# Altium footprint library Conectors.PcbLib: 137 footprints (part 8 of 9)
Each footprint in its own frame and in the unit in brackets; x right, y up, seen from the top. Pads: shape width x height; smd on the part's side, far side on the other; paste and mask are expansions set on the pad; w line width, h text height; cw(c..) or ccw(c..) is an arc to the next point about the centre after c.
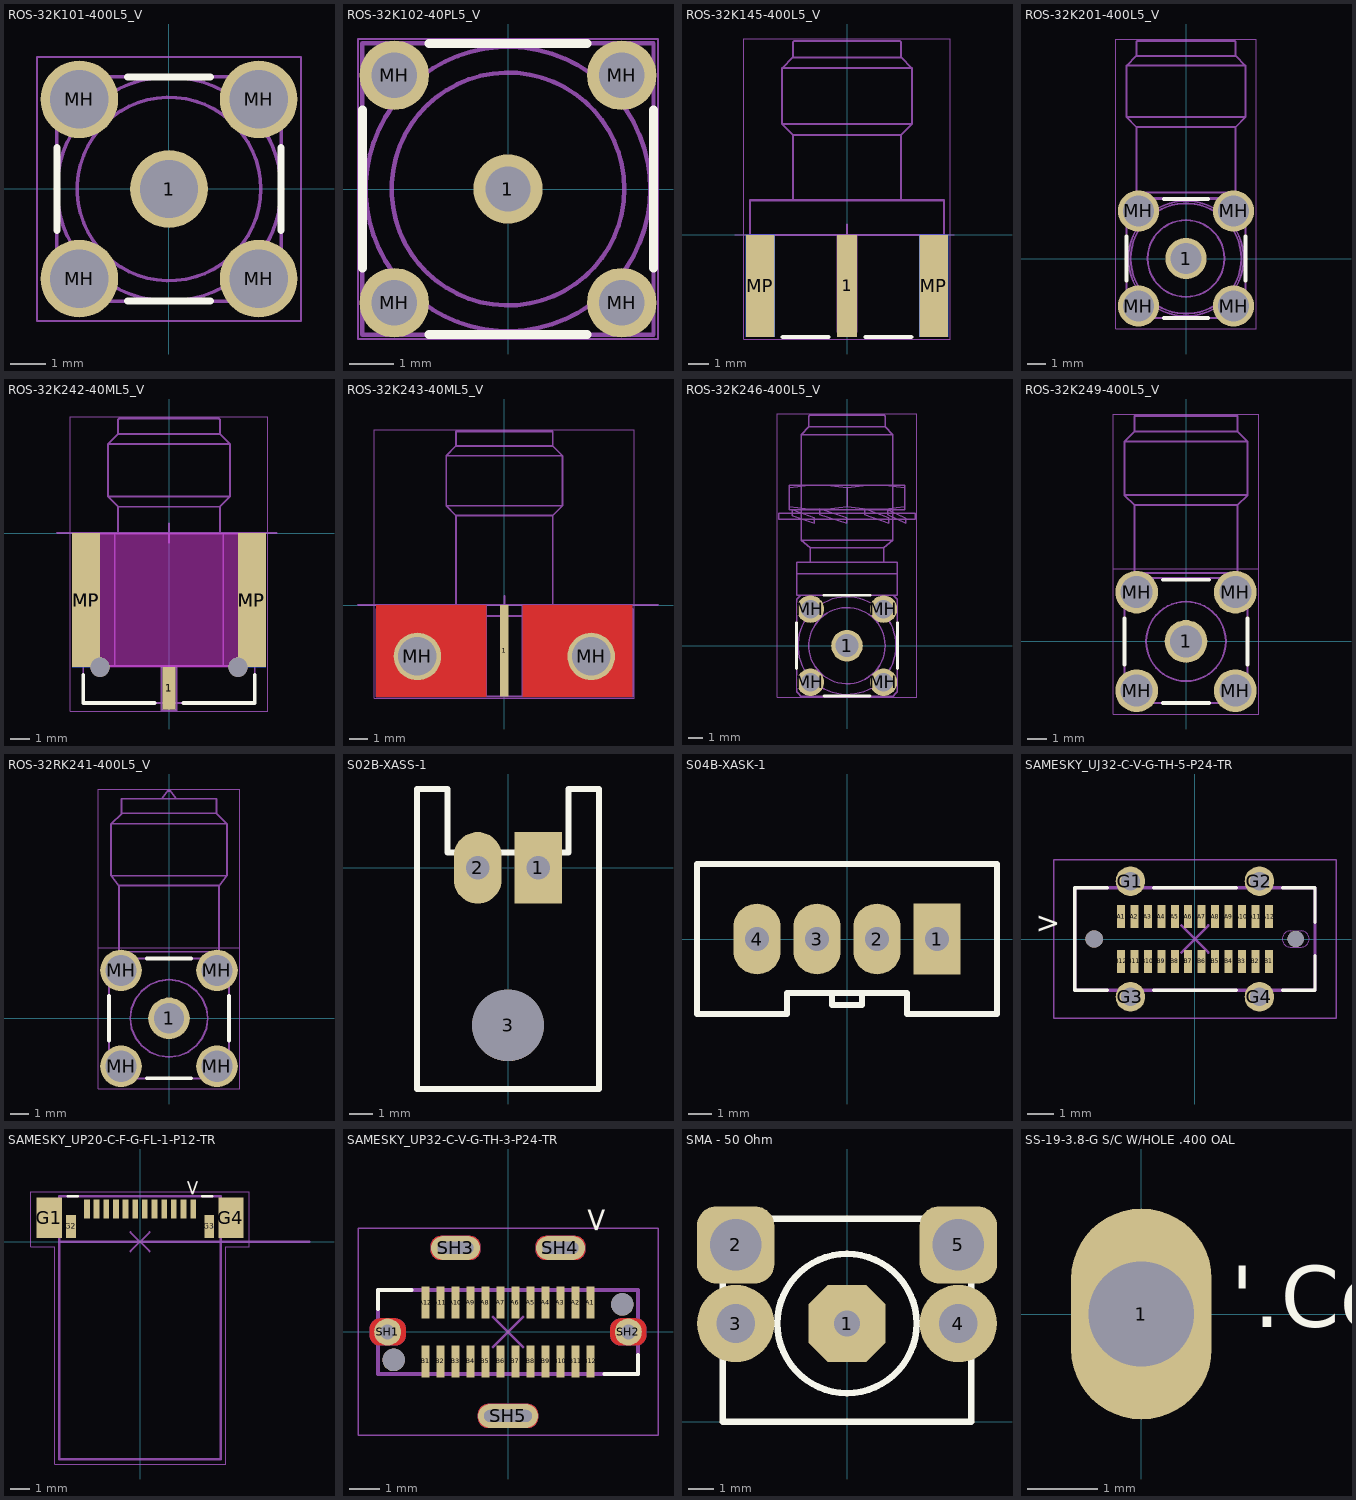
[diagram p7: the footprints below, top view; thin cyan lines are the x and y axes]

## ROS-32K101-400L5_V [mm] "SMA Straight Jack, 6.35x6.35x9.5mm, Rosenberger Recommended"
height 9.5
pads (5):
  round 2.2 hole 1.65: 1(0,0) MH(-2.54,-2.54) MH(-2.54,2.54) MH(2.54,-2.54) MH(2.54,2.54)
Top Overlay:
  lines w0.2: -3.175,-1.181 -3.175,1.181 ; -1.181,-3.175 1.181,-3.175 ; -1.181,3.175 1.181,3.175 ; 3.175,-1.181 3.175,1.181
Mechanical 13:
  circle w0.1: c0,0 r3.175
  circle w0.1: c0,0 r2.6
  circle w0.1: c0,0 r0.635
  lines w0.1: -3.19,-2.808 ccw(c0,0) -2.808,-3.191 ; -3.19,2.808 cw(c0,0) -2.808,3.19 ; -3.175,-2.794 -3.175,2.794 ; -3.04,-2.97 -3.04,-2.04 -2.04,-2.04 -2.04,-3.04 -2.97,-3.04 ; -3.04,2.97 -3.04,2.04 -2.04,2.04 -2.04,3.04 -2.97,3.04 ; -2.794,-3.175 2.794,-3.175 ; -2.794,3.175 2.794,3.175 ; -0.1,-0.627 -0.1,0.627 ; 0.1,-0.627 0.1,0.627 ; 2.808,-3.191 ccw(c0,0) 3.191,-2.808 ; 2.808,3.19 cw(c0,0) 3.191,2.808 ; 2.97,3.04 2.04,3.04 2.04,2.04 3.04,2.04 3.04,2.97 ; 2.97,-3.04 2.04,-3.04 2.04,-2.04 3.04,-2.04 3.04,-2.97 ; 3.175,-2.794 3.175,2.794
Mechanical 15:
  lines w0.05: -3.74,-3.74 -3.74,3.74 3.74,3.74 3.74,-3.74 -3.74,-3.74
  lines w0.1: -0.635,0 0.508,0 ; 0,-0.508 0,0.635
3D body "32k101-400l5.stp": height 9.5, standoff -4, extent -3.175,-3.175 3.175,3.175

## ROS-32K102-40PL5_V [mm] "SMA Straight Jack, 6.5x6.5x9.5mm, Rosenberger Recommended"
height 9.5
pads (5):
  round 1.55 hole 1.015: 1(0,0) MH(-2.54,-2.54) MH(-2.54,2.54) MH(2.54,-2.54) MH(2.54,2.54)
Top Overlay:
  lines w0.2: -3.25,-1.767 -3.25,1.767 ; -1.767,-3.25 1.767,-3.25 ; -1.767,3.25 1.767,3.25 ; 3.25,-1.767 3.25,1.767
Mechanical 13:
  circle w0.1: c0,0 r3.175
  circle w0.1: c0,0 r2.6
  circle w0.1: c0,0 r0.635
  lines w0.1: -0.1,-0.627 -0.1,0.627 ; 0.1,-0.627 0.1,0.627 ; -2.84,-2.84 -2.24,-2.84 ; -2.84,-2.84 -2.84,-2.24 ; -2.84,-2.84 -2.665,-2.665 ; -2.84,-2.84 -2.729,-3.14 -2.351,-3.14 -2.24,-2.84 ; -2.84,-2.24 -2.665,-2.415 ; -2.84,-2.24 -2.24,-2.24 ; -2.84,-2.24 -2.729,-1.94 -2.351,-1.94 -2.24,-2.24 ; -2.84,2.24 -2.84,2.84 ; -2.84,2.24 -2.665,2.415 ; -2.84,2.24 -2.24,2.24 ; -2.84,2.24 -2.729,1.94 -2.351,1.94 -2.24,2.24 ; -2.84,2.84 -2.24,2.84 ; -2.84,2.84 -2.665,2.665 ; -2.84,2.84 -2.729,3.14 -2.351,3.14 -2.24,2.84 ; -2.665,-2.665 -2.665,-2.415 ; -2.665,-2.665 -2.415,-2.665 ; -2.665,-2.415 -2.415,-2.415 ; -2.665,2.415 -2.415,2.415 ; -2.665,2.415 -2.665,2.665 ; -2.665,2.665 -2.415,2.665 ; -2.415,-2.665 -2.415,-2.415 ; -2.415,-2.665 -2.24,-2.84 ; -2.415,-2.415 -2.24,-2.24 ; -2.415,2.415 -2.415,2.665 ; -2.415,2.415 -2.24,2.24 ; -2.415,2.665 -2.24,2.84 ; -2.24,-2.84 -2.24,-2.24 ; -2.24,2.24 -2.24,2.84 ; 2.24,-2.84 2.415,-2.665 ; 2.24,-2.84 2.84,-2.84 ; 2.24,-2.84 2.24,-2.24 ; 2.24,-2.84 2.351,-3.14 2.729,-3.14 2.84,-2.84 ; 2.24,-2.24 2.84,-2.24 ; 2.24,-2.24 2.415,-2.415 ; 2.24,-2.24 2.351,-1.94 2.729,-1.94 2.84,-2.24 ; 2.24,2.24 2.351,1.94 2.729,1.94 2.84,2.24 ; 2.24,2.24 2.415,2.415 ; 2.24,2.24 2.84,2.24 ; 2.24,2.24 2.24,2.84 ; 2.24,2.84 2.351,3.14 2.729,3.14 2.84,2.84 ; 2.24,2.84 2.84,2.84 ; 2.24,2.84 2.415,2.665 ; 2.415,-2.665 2.415,-2.415 ; 2.415,-2.665 2.665,-2.665 ; 2.415,-2.415 2.665,-2.415 ; 2.415,2.415 2.665,2.415 ; 2.415,2.415 2.415,2.665 ; 2.415,2.665 2.665,2.665 ; 2.665,-2.665 2.665,-2.415 ; 2.665,-2.665 2.84,-2.84 ; 2.665,-2.415 2.84,-2.24 ; 2.665,2.415 2.84,2.24 ; 2.665,2.415 2.665,2.665 ; 2.665,2.665 2.84,2.84 ; 2.84,-2.84 2.84,-2.24 ; 2.84,2.24 2.84,2.84 ; -3.25,-3.25 -3.25,3.25 3.25,3.25 3.25,-3.25 -3.25,-3.25
Mechanical 15:
  lines w0.05: -3.35,-3.35 3.35,-3.35 3.35,3.35 -3.35,3.35 -3.35,-3.35
  lines w0.1: -0.5,0 0.5,0 ; 0,-0.5 0,0.5
3D body "32k102-40pl5.stp": height 9.5, standoff -2.8, extent -3.25,-3.25 3.25,3.25

## ROS-32K145-400L5_V [mm] "SMA Right Angle Jack, Edge Mount, 14.25x9.5x4.46mm, Rosenberger Recommended"
height 4.46
pads (5):
  rect 1x5 smd: 1(0,-2.5)
  rect 1.4x5 smd: MP(-4.25,-2.5) MP(4.25,-2.5)
  rect 1.4x5 smd far side paste-2: ""(-4.25,-2.5) ""(4.25,-2.5)
Top Overlay:
  lines w0.2: -3.15,-5 -0.9,-5 ; 0.9,-5 3.15,-5
Mechanical 3:
  lines w0.05: -5.5,0 5.25,0
  text "Board Edge" at -8.1,0 h0.2
Mechanical 13:
  lines w0.1: -3.75,0 -3.75,-4.75 -4.75,-4.75 -4.75,0 ; -2.65,1.7 -2.65,4.9 ; -0.46,0 -0.46,-4.75 0.46,-4.75 0.46,0 ; 2.65,1.7 2.65,4.9 ; 3.75,0 3.75,-4.75 4.75,-4.75 4.75,0 ; -4.75,0 4.75,0 ; -4.75,0 -4.75,1.7 4.75,1.7 4.75,0 ; -3.175,5.425 -3.175,8.175 ; -3.175,5.425 -2.65,4.9 ; -3.175,5.425 3.175,5.425 ; -3.175,8.175 3.175,8.175 ; -3.175,8.175 -2.65,8.7 ; -2.65,4.9 2.65,4.9 ; -2.65,8.7 -2.65,9.45 -2.6,9.5 2.6,9.5 2.65,9.45 2.65,8.7 ; -2.65,8.7 2.65,8.7 ; 2.65,4.9 3.175,5.425 ; 2.65,8.7 3.175,8.175 ; 3.175,5.425 3.175,8.175
Mechanical 15:
  lines w0.05: -5.05,-5.1 5.05,-5.1 5.05,9.6 -5.05,9.6 -5.05,-5.1
  lines w0.1: -0.5,0 0.5,0 ; 0,-0.5 0,0.5
3D body "32k145-400l5.stp": height 4.46, standoff -3.7, extent -4.75,-4.75 4.75,9.5

## ROS-32K201-400L5_V [mm] "SMA Right Angle Jack, 14.8x6.35x9.6mm, Rosenberger Recommended"
height 9.6
pads (5):
  round 2.2 hole 1.65: 1(0,0) MH(-2.54,-2.54) MH(-2.54,2.54) MH(2.54,-2.54) MH(2.54,2.54)
Top Overlay:
  lines w0.2: -3.175,-1.181 -3.175,1.181 ; -1.181,-3.175 1.181,-3.175 ; -1.181,3.175 1.181,3.175 ; 3.175,-1.181 3.175,1.181
Mechanical 13:
  circle w0.1: c0,0 r3.075
  circle w0.1: c0,0 r0.635
  circle w0.1: c0,0 r2.95
  circle w0.1: c0,0 r2.05
  lines w0.05: -2.9,3.275 2.9,3.275
  lines w0.1: -3.175,2.9 cw(c0,0) -2.9,3.175 -2.9,3.275 -2.65,3.525 ; -3.175,2.905 -3.175,-2.9 ccw(c0,0) -2.9,-3.175 2.9,-3.175 ccw(c0,0) 3.175,-2.9 3.175,2.9 ccw(c0,0) 2.9,3.175 ; -2.905,3.175 2.9,3.175 ; -3.175,7.55 -3.175,10.3 ; -3.175,7.55 -2.65,7.025 ; -3.175,7.55 3.175,7.55 ; -3.175,10.3 -2.65,10.825 ; -3.175,10.3 3.175,10.3 ; -2.65,3.525 -2.65,7.025 ; -2.65,3.525 2.65,3.525 ; -2.65,7.025 2.65,7.025 ; -2.65,10.825 -2.65,11.575 -2.6,11.625 -2.375,11.625 2.375,11.625 2.6,11.625 2.65,11.575 2.65,10.825 ; -2.65,10.825 2.65,10.825 ; 2.65,3.525 2.9,3.275 2.9,3.175 ; 2.65,3.525 2.65,7.025 ; 2.65,7.025 3.175,7.55 ; 2.65,10.825 3.175,10.3 ; 3.175,7.55 3.175,10.3 ; -3.04,-3.04 -3.04,-2.04 -2.04,-2.04 -2.04,-3.04 -3.04,-3.04 ; -3.04,2.04 -2.04,2.04 -2.04,3.04 -3.04,3.04 -3.04,2.04 ; 2.04,-3.04 2.04,-2.04 3.04,-2.04 3.04,-3.04 2.04,-3.04 ; 2.04,2.04 3.04,2.04 3.04,3.04 2.04,3.04 2.04,2.04
Mechanical 15:
  lines w0.05: -3.74,-3.74 3.74,-3.74 3.74,11.725 -3.74,11.725 -3.74,-3.74
  lines w0.1: -0.5,0 0.5,0 ; 0,-0.5 0,0.5
3D body "32k201-400l5.stp": height 9.6, standoff -3.9, extent -3.175,-3.175 3.175,11.625

## ROS-32K242-40ML5_V [mm] "SMA Right Angle Jack, Edge Mount, 14.84x8.944x4.00mm, Rosenberger Recommended"
height 4
pads (5):
  rect 0.7x2.2 smd: 1(0,-8.1)
  rect 1.45x7 smd: MP(-4.325,-3.5) MP(4.325,-3.5)
  rect 1.45x7 smd far side paste-2: MP(-4.325,-3.5) MP(4.325,-3.5)
via 3.6,-7 diameter 1 hole 1
via -3.6,-7 diameter 1 hole 1
Top Overlay:
  lines w0.2: -4.472,-7.4 -4.472,-8.869 -0.75,-8.869 ; 0.75,-8.869 4.472,-8.869 4.472,-7.4
Keep-Out Layer:
  board cut-out: -3.6,-7 3.6,-7 3.6,0 -3.6,0
Mechanical 3:
  lines w0.1: -5.85,0 5.6,0
  text "Board Edge" at -8.244,0.027 h0.2
  text "Plated Edge" at -3.5,-4.75 h0.2
  text "Unplated Edge" at -1.143,-7 h0.2
  text "Plated Edge" at 3.65,-4.65 h0.2
Mechanical 13:
  lines w0.1: -2.828,-6.929 -2.828,-0.029 ; -2.65,-0.029 -2.65,1.371 ; -0.395,-6.929 -0.395,-9.25 0.395,-9.25 0.395,-6.929 ; 2.65,-0.029 2.65,1.371 ; 2.829,-6.929 2.829,-0.029 ; -4.472,-6.929 -4.472,-8.869 4.472,-8.869 4.472,-6.929 ; -4.472,-6.929 -4.472,-0.029 4.472,-0.029 4.472,-6.929 ; -4.472,-6.929 4.472,-6.929 ; -3.175,1.896 -2.65,1.371 ; -3.175,1.896 -3.175,4.646 ; -3.175,1.896 3.175,1.896 ; -3.175,4.646 -2.65,5.171 ; -3.175,4.646 3.175,4.646 ; -2.65,1.371 2.65,1.371 ; -2.65,5.171 -2.65,5.921 -2.6,5.971 2.6,5.971 2.65,5.921 2.65,5.171 ; -2.65,5.171 2.65,5.171 ; 2.65,1.371 3.175,1.896 ; 2.65,5.171 3.175,4.646 ; 3.175,1.896 3.175,4.646
Mechanical 15:
  lines w0.05: -5.15,-9.3 -5.15,6.071 5.15,6.071 5.15,-9.3 -5.15,-9.3
  lines w0.1: -0.5,0 0.5,0 ; 0,-0.5 0,0.5
3D body "32k242-40ml5.stp": height 4, standoff -3, extent -4.472,-8.869 4.472,5.971

## ROS-32K243-40ML5_V [mm] "SMA Jack, Right Angle, Edge Mount Screw On, 14.50x14.00x5.15mm, Rosenberger Recommended"
height 5.15
pads (3):
  rect 0.48x5 smd: 1(0,-2.5)
  round 2.6 hole 2.1: MH(-4.75,-2.8) MH(4.75,-2.8)
Top Layer:
  region: 1,0 4.75,0 4.75,-1.75 4.888,-1.75 5.155,-1.822 5.395,-1.96 5.59,-2.155 5.728,-2.395 5.8,-2.662 5.8,-2.938 5.728,-3.205 5.59,-3.445 5.395,-3.64 5.155,-3.778 4.888,-3.85 4.75,-3.85 4.612,-3.85 4.345,-3.778 4.105,-3.64 3.91,-3.445 3.772,-3.205 3.7,-2.938 3.7,-2.662 3.772,-2.395 3.91,-2.155 4.105,-1.96 4.345,-1.822 4.612,-1.75 4.75,-1.75 4.75,0 7,0 7,-5 1,-5
  region: -1,0 -4.75,0 -4.75,-1.75 -4.888,-1.75 -5.155,-1.822 -5.395,-1.96 -5.59,-2.155 -5.728,-2.395 -5.8,-2.662 -5.8,-2.938 -5.728,-3.205 -5.59,-3.445 -5.395,-3.64 -5.155,-3.778 -4.888,-3.85 -4.75,-3.85 -4.612,-3.85 -4.345,-3.778 -4.105,-3.64 -3.91,-3.445 -3.772,-3.205 -3.7,-2.938 -3.7,-2.662 -3.772,-2.395 -3.91,-2.155 -4.105,-1.96 -4.345,-1.822 -4.612,-1.75 -4.75,-1.75 -4.75,0 -7,0 -7,-5 -1,-5
Bottom Layer:
  region: -1,0 -4.75,0 -4.75,-1.75 -4.888,-1.75 -5.155,-1.822 -5.395,-1.96 -5.59,-2.155 -5.728,-2.395 -5.8,-2.662 -5.8,-2.938 -5.728,-3.205 -5.59,-3.445 -5.395,-3.64 -5.155,-3.778 -4.888,-3.85 -4.75,-3.85 -4.612,-3.85 -4.345,-3.778 -4.105,-3.64 -3.91,-3.445 -3.772,-3.205 -3.7,-2.938 -3.7,-2.662 -3.772,-2.395 -3.91,-2.155 -4.105,-1.96 -4.345,-1.822 -4.612,-1.75 -4.75,-1.75 -4.75,0 -7,0 -7,-5 -1,-5
  region: 1,0 4.75,0 4.75,-1.75 4.888,-1.75 5.155,-1.822 5.395,-1.96 5.59,-2.155 5.728,-2.395 5.8,-2.662 5.8,-2.938 5.728,-3.205 5.59,-3.445 5.395,-3.64 5.155,-3.778 4.888,-3.85 4.75,-3.85 4.612,-3.85 4.345,-3.778 4.105,-3.64 3.91,-3.445 3.772,-3.205 3.7,-2.938 3.7,-2.662 3.772,-2.395 3.91,-2.155 4.105,-1.96 4.345,-1.822 4.612,-1.75 4.75,-1.75 4.75,0 7,0 7,-5 1,-5
Mechanical 3:
  lines w0.1: -8,0 8.4,0
  text "Board Edge" at -10.5,0.1 h0.2
Mechanical 13:
  circle w0.1: c-4.75,-2.8 r1.89
  circle w0.1: c4.75,-2.8 r1.89
  lines w0.1: -7,-0.6 7,-0.6 ; -6.458,-5 -6.458,-0.2 ; -2.65,-0.2 -2.65,4.9 ; -1,-5 -1,-0.2 ; -1,-0.6 1,-0.6 ; -0.125,0 -0.125,-0.79 0.125,-0.79 0.125,0 ; 1,-5 1,-0.2 ; 2.65,-0.2 2.65,4.9 ; 6.458,-5 6.458,-0.2 ; -6.458,-0.2 -1,-0.2 ; -6.458,-0.2 -7,-0.2 -7,-5 7,-5 7,-0.2 6.458,-0.2 ; -3.18,5.43 -2.65,4.9 ; -3.18,5.43 -3.18,8.17 ; -3.18,5.43 3.18,5.43 ; -3.18,8.17 -2.65,8.7 ; -3.18,8.17 3.18,8.17 ; -2.65,4.9 2.65,4.9 ; -2.65,8.7 -2.65,9.5 2.65,9.5 2.65,8.7 ; -2.65,8.7 2.65,8.7 ; -1,-0.2 -1,0 1,0 1,-0.2 ; 1,-0.2 6.458,-0.2 ; 2.65,4.9 3.18,5.43 ; 2.65,8.7 3.18,8.17 ; 3.18,5.43 3.18,8.17 ; -5.616,-2.8 -5.183,-3.55 -4.317,-3.55 -3.884,-2.8 -4.317,-2.05 -5.183,-2.05 -5.616,-2.8 ; 3.884,-2.8 4.317,-2.05 5.183,-2.05 5.616,-2.8 5.183,-3.55 4.317,-3.55 3.884,-2.8
Mechanical 15:
  lines w0.05: -7.1,-5.1 7.1,-5.1 7.1,9.6 -7.1,9.6 -7.1,-5.1
  lines w0.1: -0.5,0 0.5,0 ; 0,-0.5 0,0.5
3D body "32k243-40ml5.stp": height 5.15, standoff -4.85, extent -7,-5 7,9.5

## ROS-32K246-400L5_V [mm] "SMA Right Angle Jack, Panel Mount, 19.50x9.50x10.00mm, Rosenberger Recommended"
height 10
pads (5):
  round 2.2 hole 1.6: 1(0,0)
  round 1.9 hole 1.3: MH(-2.54,-2.54) MH(-2.54,2.54) MH(2.54,-2.54) MH(2.54,2.54)
Top Overlay:
  lines w0.2: -3.5,-1.591 -3.5,1.591 ; -1.591,-3.5 1.591,-3.5 ; -1.591,3.5 1.591,3.5 ; 3.5,-1.591 3.5,1.591
Mechanical 13:
  circle w0.1: c0,0 r2.65
  circle w0.1: c0,0 r3.4
  circle w0.1: c0,0 r0.635
  lines w0.1: -4,9.652 -3.439,9.575 -2.887,9.521 -2,9.486 -1.113,9.521 -0.561,9.575 0,9.652 ; -4,10.984 -3.439,11.061 -2.887,11.115 -2,11.15 -1.113,11.115 -0.561,11.061 0,10.984 ; -3.501,-3.21 ccw(c0,0) -3.21,-3.501 ; -3.501,3.21 cw(c0,0) -3.21,3.501 ; -3.5,-3.211 -3.5,3.211 ; -3.211,-3.5 3.211,-3.5 ; -2.56,5.8 -2.56,6.8 ; 1.231,9.5 2.899,8.9 2.899,8.5 1.231,9.11 1.231,9.51 ; 2.56,5.8 2.56,6.8 ; 3.21,-3.501 ccw(c0,0) 3.501,-3.21 ; 3.21,3.501 cw(c0,0) 3.501,3.21 ; 3.5,-3.211 3.5,3.209 ; 4,9.652 3.439,9.575 2.887,9.521 2,9.486 1.113,9.521 0.561,9.575 0,9.652 ; 4,10.984 3.439,11.061 2.887,11.115 2,11.15 1.113,11.115 0.561,11.061 0,10.984 ; -3.5,5 -3.5,5.8 3.5,5.8 3.5,5 ; -3.5,5 3.5,5 ; -3.5,5 -3.5,3.5 -3.211,3.5 ; -3.211,3.5 3.209,3.5 3.5,3.5 3.5,5 ; -3.175,7.325 3.175,7.325 ; -3.175,7.325 -2.56,6.8 ; -3.175,7.325 -3.175,14.675 ; -3.175,14.675 3.175,14.675 ; -3.175,14.675 -2.65,15.2 ; -2.65,15.2 2.65,15.2 ; -2.65,15.2 -2.65,15.95 -2.6,16 2.6,16 2.65,15.95 2.65,15.2 ; -2.56,6.8 2.56,6.8 ; 0,9.652 0,10.984 ; 2.56,6.8 3.175,7.325 ; 2.65,15.2 3.175,14.675 ; 3.175,7.325 3.175,14.675 ; -4.75,8.8 4.75,8.8 4.75,9.2 -4.75,9.2 -4.75,8.8 ; -4,9.45 -4,11.15 4,11.15 4,9.45 -4,9.45 ; -3.82,9.016 -2.263,8.5 -2.263,8.9 -3.81,9.45 -3.82,9.016 ; -2.94,-2.94 -2.14,-2.94 -2.14,-2.14 -2.94,-2.14 -2.94,-2.94 ; -2.94,2.14 -2.94,2.94 -2.14,2.94 -2.14,2.14 -2.94,2.14 ; -1.895,9.1 0,8.5 0,8.9 -1.895,9.5 -1.895,9.1 ; 2.14,-2.94 2.94,-2.94 2.94,-2.14 2.14,-2.14 2.14,-2.94 ; 2.14,2.14 2.14,2.94 2.94,2.94 2.94,2.14 2.14,2.14 ; 2.838,9.1 4.1,8.5 4.1,8.85 2.838,9.45 2.838,9.1
Mechanical 15:
  lines w0.05: -4.85,-3.6 -4.85,16.1 4.85,16.1 4.85,-3.6 -4.85,-3.6
  lines w0.1: -0.5,0 0.5,0 ; 0,-0.5 0,0.5
3D body "32k246-400l5.stp": height 10, standoff -4, extent -4.75,-3.5 4.75,16

## ROS-32K249-400L5_V [mm] "SMA Right Angle Jack, 14.8x6.35x9.7mm, Rosenberger Recommended"
height 9.7
pads (5):
  round 2.2 hole 1.65: 1(0,0) MH(-2.54,-2.54) MH(-2.54,2.54) MH(2.54,-2.54) MH(2.54,2.54)
Top Overlay:
  lines w0.2: -3.175,-1.181 -3.175,1.181 ; -1.181,-3.175 1.181,-3.175 ; -1.181,3.175 1.181,3.175 ; 3.175,-1.181 3.175,1.181
Mechanical 13:
  circle w0.1: c0,0 r0.635
  circle w0.1: c0,0 r2.05
  lines w0.1: -3.175,-1.708 -2.161,-1.708 -2.02,-1.874 -1.866,-2.028 -1.7,-2.17 -1.7,-3.183 ; -3.175,1.708 -2.161,1.708 -2.02,1.874 -1.866,2.028 -1.7,2.17 -1.7,3.183 -2.9,3.183 -3.175,2.908 -3.175,-2.908 -2.9,-3.183 ; -2.9,-3.183 2.9,-3.183 ; 1.7,-3.183 1.7,-2.17 1.866,-2.028 2.02,-1.874 2.161,-1.708 3.175,-1.708 ; 2.9,-3.183 3.175,-2.908 3.175,2.908 2.9,3.183 1.7,3.183 1.7,2.17 1.866,2.028 2.02,1.874 2.161,1.708 3.175,1.708 ; -3.175,7.542 -3.175,10.292 ; -3.175,7.542 3.175,7.542 ; -3.175,7.542 -2.65,7.017 ; -3.175,10.292 3.175,10.292 ; -3.175,10.292 -2.65,10.817 ; -2.65,3.517 -2.65,7.017 ; -2.65,3.517 2.65,3.517 ; -2.65,3.517 -2.9,3.267 2.9,3.267 2.65,3.517 ; -2.65,7.017 2.65,7.017 ; -2.65,10.817 2.65,10.817 ; -2.65,10.817 -2.65,11.617 2.65,11.617 2.65,10.817 ; 2.65,3.517 2.65,7.017 ; 2.65,7.017 3.175,7.542 ; 2.65,10.817 3.175,10.292 ; 3.175,7.542 3.175,10.292 ; -3.04,-3.048 -2.04,-3.048 -2.04,-2.048 -3.04,-2.048 -3.04,-3.048 ; -3.04,2.032 -3.04,3.032 -2.04,3.032 -2.04,2.032 -3.04,2.032 ; 2.04,-3.048 2.04,-2.048 3.04,-2.048 3.04,-3.048 2.04,-3.048 ; 2.04,2.032 3.04,2.032 3.04,3.032 2.04,3.032 2.04,2.032
Mechanical 15:
  lines w0.05: -3.74,3.74 3.74,3.74 ; -3.74,-3.74 3.74,-3.74 3.74,11.717 -3.74,11.717 -3.74,-3.74
  lines w0.1: -0.5,0 0.5,0 ; 0,-0.5 0,0.5
3D body "32k249-400l5.stp": height 9.7, standoff -4, extent -3.175,-3.183 3.175,11.617

## ROS-32RK241-400L5_V [mm] "Reverse-SMA Straight Jack, 15.215x6.35x9.7mm, Rosenberger Recommended"
height 9.7
pads (5):
  round 2.2 hole 1.6: 1(0,0)
  round 2.2 hole 1.65: MH(-2.54,-2.54) MH(-2.54,2.54) MH(2.54,-2.54) MH(2.54,2.54)
Top Overlay:
  lines w0.2: -3.175,-1.181 -3.175,1.181 ; -1.181,-3.175 1.181,-3.175 ; -1.181,3.175 1.181,3.175 ; 3.175,-1.181 3.175,1.181
Mechanical 13:
  circle w0.1: c0,0 r0.635
  lines w0.1: -3.175,-2.9 -3.175,2.9 -3.086,2.995 -2.994,3.086 ; -3.175,-2.9 -3.086,-2.994 -2.995,-3.086 -2.9,-3.175 2.905,-3.175 ; -3.175,-1.7 -2.161,-1.7 ; -3.175,1.7 -2.162,1.7 ; -2.9,3.175 -2.994,3.086 ; -2.65,4.036 -2.65,7.02 -2.65,3.525 ; -2.161,-1.7 -2.02,-1.866 -1.866,-2.02 -1.7,-2.162 ; -2.162,1.7 -2.02,1.866 -1.866,2.02 -1.7,2.161 ; -1.7,-3.175 -1.7,-2.162 ; -1.7,2.161 -1.7,3.175 ; -0.375,11.625 -0.071,12.04 0.071,12.04 0.375,11.625 ; 1.7,-2.161 1.866,-2.02 2.02,-1.866 2.162,-1.7 ; 1.7,2.162 1.866,2.02 2.02,1.866 2.161,1.7 ; 1.7,-3.175 1.7,-2.161 ; 1.7,2.162 1.7,3.175 ; 2.162,-1.7 3.175,-1.7 ; 2.161,1.7 3.175,1.7 ; 2.65,4.036 2.65,7.02 2.65,3.525 ; 2.9,-3.175 2.994,-3.086 3.086,-2.995 3.175,-2.9 ; 3.175,-2.905 3.175,2.9 ; 3.175,2.9 3.086,2.994 2.995,3.086 ; -3.067,7.55 -2.65,7.025 ; -3.067,7.55 -3.067,10.3 ; -3.067,7.55 3.067,7.55 ; -3.067,7.55 -2.65,7.025 ; -3.067,7.55 -3.067,10.3 ; -3.067,10.3 -2.512,10.825 -3.067,10.3 ; -3.067,10.3 3.067,10.3 ; -2.995,3.086 -2.9,3.175 ; -2.9,3.175 -2.65,3.525 ; -2.9,3.175 2.9,3.175 ; -2.65,3.525 2.65,3.525 ; -2.65,7.025 2.65,7.025 ; -2.512,10.855 -2.512,11.625 ; -2.512,10.855 2.512,10.855 ; -2.512,10.855 -2.512,11.625 ; -2.512,11.625 2.511,11.625 -2.512,11.625 ; 2.512,10.855 2.512,11.625 2.512,10.855 ; 2.512,10.855 3.067,10.3 ; 2.512,10.855 3.067,10.3 ; 2.65,3.525 2.9,3.175 ; 2.65,7.025 3.067,7.55 ; 2.65,7.025 3.067,7.55 ; 2.9,3.175 2.995,3.086 ; 2.9,3.175 2.995,3.086 ; 3.067,7.55 3.067,10.3 ; 3.067,7.55 3.067,10.3 ; -3.04,-3.04 -2.04,-3.04 -2.04,-2.04 -3.04,-2.04 -3.04,-3.04 ; -3.04,2.04 -2.04,2.04 -2.04,3.04 -3.04,3.04 -3.04,2.04 ; -2.05,0 -1.98,0.531 -1.775,1.025 -1.449,1.45 -1.025,1.775 -0.53,1.98 0,2.05 0.531,1.98 1.025,1.775 1.45,1.449 1.775,1.025 1.98,0.53 2.05,0 1.98,-0.531 1.775,-1.025 1.449,-1.45 1.025,-1.775 0.53,-1.98 0,-2.05 -0.531,-1.98 -1.025,-1.775 -1.45,-1.449 -1.775,-1.025 -1.98,-0.53 -2.05,0 ; 2.04,-3.04 3.04,-3.04 3.04,-2.04 2.04,-2.04 2.04,-3.04 ; 2.04,2.04 3.04,2.04 3.04,3.04 2.04,3.04 2.04,2.04
Mechanical 15:
  lines w0.05: -3.74,3.74 3.74,3.74 ; -3.74,-3.74 3.74,-3.74 3.74,12.14 -3.74,12.14 -3.74,-3.74
3D body "32rk241-400l5.stp": height 9.7, standoff -4, extent -3.175,-3.175 3.175,12.04

## S02B-XASS-1 [mm] "CONN HEADER XA 2POS 2.5MM TIN"
height 11.3
pads (3):
  rect 2x3 hole 1: 1(1.27,0)
  oval 2x3 hole 1: 2(-1.27,0)
  round 3 hole 3 unplated: 3(0,-6.604)
Top Overlay:
  lines w0.254: -3.81,-9.271 3.81,-9.271 3.81,3.302 2.54,3.302 2.54,0.635 -2.54,0.635 -2.54,3.302 -3.81,3.302 -3.81,-9.271
3D body "S02B-XASS-1.STEP": height 7.6, standoff -3.5, extent -3.75,-9.253 3.75,3.347

## S04B-XASK-1 [mm] "CONN HEADER XA 4POS 2.5MM TIN"
height 11.3
pads (4):
  rect 2x3 hole 1: 1(3.81,0)
  oval 2x3 hole 1: 2(1.27,0) 3(-1.27,0) 4(-3.81,0)
Top Overlay:
  lines w0.254: -0.635,-2.286 -0.635,-2.794 0,-2.794 0.635,-2.794 0.635,-2.286 ; -6.35,-3.175 -2.54,-3.175 -2.54,-2.286 2.54,-2.286 2.54,-3.175 6.35,-3.175 6.35,3.175 -6.35,3.175 -6.35,-3.175
3D body "S04B-XASK-1.STEP": height 7.6, standoff -3.5, extent -6.25,-9.38 6.25,3.22

## SAMESKY_UJ32-C-V-G-TH-5-P24-TR [mm]
height 9.35
pads (30):
  rect 0.3x0.85 smd paste+0 mask+0.102: A1(-2.75,0.835) A2(-2.25,0.835) A3(-1.75,0.835) A4(-1.25,0.835) A5(-0.75,0.835) A6(-0.25,0.835) A7(0.25,0.835) A8(0.75,0.835) A9(1.25,0.835) A10(1.75,0.835) A11(2.25,0.835) A12(2.75,0.835) B1(2.75,-0.835) B2(2.25,-0.835) B3(1.75,-0.835) B4(1.25,-0.835) B5(0.75,-0.835) B6(0.25,-0.835) B7(-0.25,-0.835) B8(-0.75,-0.835) B9(-1.25,-0.835) B10(-1.75,-0.835) B11(-2.25,-0.835) B12(-2.75,-0.835)
  round 1.1 hole 0.7 mask+0.102: G1(-2.4,2.15) G2(2.4,2.15) G3(-2.4,-2.15) G4(2.4,-2.15)
  round 0.65 hole 0.65 unplated mask+0: ""(-3.75,0)
  round 0.6 hole 0.6 unplated mask+0: ""(3.75,0)
Top Overlay:
  lines w0.127: -3.27,-1.9 -4.47,-1.9 -4.47,1.9 -3.27,1.9 ; -1.53,-1.9 1.53,-1.9 ; -1.53,1.9 1.53,1.9 ; 3.27,-1.9 4.47,-1.9 4.47,-0.62 ; 3.27,1.9 4.47,1.9 4.47,0.62
  text ".Silk" at -2.167,2.883 h3
  text ">" at -5.915,0.235 h0.8
Top Solder:
  region: 3.971,0.399 3.992,0.398 4.013,0.395 4.033,0.391 4.054,0.386 4.074,0.38 4.093,0.373 4.113,0.365 4.132,0.356 4.15,0.346 4.168,0.335 4.185,0.324 4.202,0.311 4.218,0.297 4.233,0.283 4.247,0.268 4.261,0.252 4.274,0.235 4.285,0.218 4.296,0.2 4.306,0.182 4.315,0.163 4.323,0.143 4.33,0.124 4.336,0.104 4.341,0.083 4.345,0.063 4.348,0.042 4.349,0.021 4.35,0 4.349,-0.021 4.348,-0.042 4.345,-0.063 4.341,-0.083 4.336,-0.104 4.33,-0.124 4.323,-0.143 4.315,-0.163 4.306,-0.182 4.296,-0.2 4.285,-0.218 4.274,-0.235 4.261,-0.252 4.247,-0.268 4.233,-0.283 4.218,-0.297 4.202,-0.311 4.185,-0.324 4.168,-0.335 4.15,-0.346 4.132,-0.356 4.113,-0.365 4.093,-0.373 4.074,-0.38 4.054,-0.386 4.033,-0.391 4.013,-0.395 3.992,-0.398 3.971,-0.399 3.95,-0.4 3.55,-0.4 3.529,-0.399 3.508,-0.398 3.487,-0.395 3.467,-0.391 3.446,-0.386 3.426,-0.38 3.407,-0.373 3.387,-0.365 3.368,-0.356 3.35,-0.346 3.332,-0.335 3.315,-0.324 3.298,-0.311 3.282,-0.297 3.267,-0.283 3.253,-0.268 3.239,-0.252 3.226,-0.235 3.215,-0.218 3.204,-0.2 3.194,-0.182 3.185,-0.163 3.177,-0.143 3.17,-0.124 3.164,-0.104 3.159,-0.083 3.155,-0.063 3.152,-0.042 3.151,-0.021 3.15,0 3.151,0.021 3.152,0.042 3.155,0.063 3.159,0.083 3.164,0.104 3.17,0.124 3.177,0.143 3.185,0.163 3.194,0.182 3.204,0.2 3.215,0.218 3.226,0.235 3.239,0.252 3.253,0.268 3.267,0.283 3.282,0.297 3.298,0.311 3.315,0.324 3.332,0.335 3.35,0.346 3.368,0.356 3.387,0.365 3.407,0.373 3.426,0.38 3.446,0.386 3.467,0.391 3.487,0.395 3.508,0.398 3.529,0.399 3.55,0.4 3.95,0.4
Bottom Solder:
  region: 3.971,0.399 3.992,0.398 4.013,0.395 4.033,0.391 4.054,0.386 4.074,0.38 4.093,0.373 4.113,0.365 4.132,0.356 4.15,0.346 4.168,0.335 4.185,0.324 4.202,0.311 4.218,0.297 4.233,0.283 4.247,0.268 4.261,0.252 4.274,0.235 4.285,0.218 4.296,0.2 4.306,0.182 4.315,0.163 4.323,0.143 4.33,0.124 4.336,0.104 4.341,0.083 4.345,0.063 4.348,0.042 4.349,0.021 4.35,0 4.349,-0.021 4.348,-0.042 4.345,-0.063 4.341,-0.083 4.336,-0.104 4.33,-0.124 4.323,-0.143 4.315,-0.163 4.306,-0.182 4.296,-0.2 4.285,-0.218 4.274,-0.235 4.261,-0.252 4.247,-0.268 4.233,-0.283 4.218,-0.297 4.202,-0.311 4.185,-0.324 4.168,-0.335 4.15,-0.346 4.132,-0.356 4.113,-0.365 4.093,-0.373 4.074,-0.38 4.054,-0.386 4.033,-0.391 4.013,-0.395 3.992,-0.398 3.971,-0.399 3.95,-0.4 3.55,-0.4 3.529,-0.399 3.508,-0.398 3.487,-0.395 3.467,-0.391 3.446,-0.386 3.426,-0.38 3.407,-0.373 3.387,-0.365 3.368,-0.356 3.35,-0.346 3.332,-0.335 3.315,-0.324 3.298,-0.311 3.282,-0.297 3.267,-0.283 3.253,-0.268 3.239,-0.252 3.226,-0.235 3.215,-0.218 3.204,-0.2 3.194,-0.182 3.185,-0.163 3.177,-0.143 3.17,-0.124 3.164,-0.104 3.159,-0.083 3.155,-0.063 3.152,-0.042 3.151,-0.021 3.15,0 3.151,0.021 3.152,0.042 3.155,0.063 3.159,0.083 3.164,0.104 3.17,0.124 3.177,0.143 3.185,0.163 3.194,0.182 3.204,0.2 3.215,0.218 3.226,0.235 3.239,0.252 3.253,0.268 3.267,0.283 3.282,0.297 3.298,0.311 3.315,0.324 3.332,0.335 3.35,0.346 3.368,0.356 3.387,0.365 3.407,0.373 3.426,0.38 3.446,0.386 3.467,0.391 3.487,0.395 3.508,0.398 3.529,0.399 3.55,0.4 3.95,0.4
Mechanical 1:
  lines w0: 3.25,0 ccw(c3.55,0) 3.55,-0.3 3.95,-0.3 ccw(c3.95,0) 4.25,0 ccw(c3.95,0) 3.95,0.3 3.55,0.3 ccw(c3.55,0) 3.25,0
Mechanical 13:
  lines w0.127: -4.47,-1.9 4.47,-1.9 4.47,1.9 -4.47,1.9 -4.47,-1.9
Mechanical 15:
  lines w0.05: -5.25,-2.95 5.25,-2.95 5.25,2.95 -5.25,2.95 -5.25,-2.95
  lines w0.1: -0.5,-0.5 0.5,0.5 ; -0.5,0.5 0.5,-0.5
3D body "Same_Sky_UJ32-C-V-G-TH-5-P24-TR.step": height 9.21, standoff -1.09, extent -4.47,-2.3 4.47,2.3

## SAMESKY_UP20-C-F-G-FL-1-P12-TR [mm]
height 1.83
pads (16):
  rect 0.3x1 smd paste+0 mask+0.102: A1(2.75,1.7) A2(2.25,1.7) A3(1.75,1.7) A4(1.25,1.7) A5(-1.25,1.7) A6(-1.75,1.7) A7(-2.25,1.7) A12(-2.75,1.7) B9(-0.75,1.7) B10(-0.25,1.7) B11(0.25,1.7) B12(0.75,1.7)
  rect 1.3x2.1 smd paste+0 mask+0.102: G1(-4.7,1.25) G4(4.7,1.25)
  rect 0.5x1.2 smd paste+0 mask+0.102: G2(-3.575,0.8) G3(3.575,0.8)
Top Overlay:
  lines w0.127: -3.73,2.35 -3.22,2.35 ; 3.22,2.35 3.73,2.35
  text ".Silk" at -2.167,2.823 h3
  text ">" at 2.394,3.228 h0.8
Mechanical 13:
  lines w0.127: 8.75,0 -4.175,0 ; -4.175,0 -4.175,-11.25 4.175,-11.25 4.175,2.35 -4.175,2.35 -4.175,0
  text "PCB EDGE" at 5.75,0.25 h1.02
Mechanical 15:
  lines w0.05: -5.65,-0.25 -4.425,-0.25 -4.425,-11.5 4.425,-11.5 4.425,-0.25 5.65,-0.25 5.65,2.6 -5.65,2.6 -5.65,-0.25
  lines w0.1: -0.5,-0.5 0.5,0.5 ; -0.5,0.5 0.5,-0.5
3D body "step_temp.STEP": height 1.87, standoff -0.93, extent -5.049,-11.265 5.049,2.335

## SAMESKY_UP32-C-V-G-TH-3-P24-TR [mm]
height 11.1
pads (31):
  rect 0.28x1.06 smd: A1(2.75,0.98) A2(2.25,0.98) A3(1.75,0.98) A4(1.25,0.98) A5(0.75,0.98) A6(0.25,0.98) A7(-0.25,0.98) A8(-0.75,0.98) A9(-1.25,0.98) A10(-1.75,0.98) A11(-2.25,0.98) A12(-2.75,0.98) B1(-2.75,-0.98) B2(-2.25,-0.98) B3(-1.75,-0.98) B4(-1.25,-0.98) B5(-0.75,-0.98) B6(-0.25,-0.98) B7(0.25,-0.98) B8(0.75,-0.98) B9(1.25,-0.98) B10(1.75,-0.98) B11(2.25,-0.98) B12(2.75,-0.98)
  round 0.9 hole 0.5 mask+0: SH1(-4.01,0) SH2(4.01,0)
  oval 1.63x0.8 hole 0.4 slot 1.2 at 0 deg mask+0: SH3(-1.75,2.8) SH4(1.75,2.8)
  oval 2x0.8 hole 0.4 slot 1.6 at 0 deg mask+0: SH5(0,-2.8)
  round 0.75 hole 0.75 unplated: ""(-3.81,-0.93) ""(3.81,0.92)
Top Layer:
  region: 2.267,3.198 2.285,3.196 2.303,3.192 2.321,3.188 2.338,3.183 2.355,3.177 2.372,3.17 2.389,3.162 2.405,3.153 2.421,3.144 2.436,3.133 2.45,3.122 2.464,3.11 2.477,3.097 2.49,3.084 2.502,3.07 2.513,3.056 2.524,3.041 2.533,3.025 2.542,3.009 2.55,2.992 2.557,2.975 2.563,2.958 2.568,2.941 2.572,2.923 2.576,2.905 2.578,2.887 2.58,2.868 2.58,2.85 2.58,2.75 2.58,2.732 2.578,2.713 2.576,2.695 2.572,2.677 2.568,2.659 2.563,2.642 2.557,2.625 2.55,2.608 2.542,2.591 2.533,2.575 2.524,2.559 2.513,2.544 2.502,2.53 2.49,2.516 2.477,2.503 2.464,2.49 2.45,2.478 2.436,2.467 2.421,2.456 2.405,2.447 2.389,2.438 2.372,2.43 2.355,2.423 2.338,2.417 2.321,2.412 2.303,2.408 2.285,2.404 2.267,2.402 2.248,2.4 1.252,2.4 1.233,2.402 1.215,2.404 1.197,2.408 1.179,2.412 1.162,2.417 1.145,2.423 1.128,2.43 1.111,2.438 1.095,2.447 1.079,2.456 1.064,2.467 1.05,2.478 1.036,2.49 1.023,2.503 1.01,2.516 0.998,2.53 0.987,2.544 0.976,2.559 0.967,2.575 0.958,2.591 0.95,2.608 0.943,2.625 0.937,2.642 0.932,2.659 0.928,2.677 0.924,2.695 0.922,2.713 0.92,2.732 0.92,2.75 0.92,2.85 0.92,2.868 0.922,2.887 0.924,2.905 0.928,2.923 0.932,2.941 0.937,2.958 0.943,2.975 0.95,2.992 0.958,3.009 0.967,3.025 0.976,3.041 0.987,3.056 0.998,3.07 1.01,3.084 1.023,3.097 1.036,3.11 1.05,3.122 1.064,3.133 1.079,3.144 1.095,3.153 1.111,3.162 1.128,3.17 1.145,3.177 1.162,3.183 1.179,3.188 1.197,3.192 1.215,3.196 1.233,3.198 1.252,3.2 2.248,3.2
  region: 0.687,-2.402 0.705,-2.404 0.723,-2.408 0.741,-2.412 0.758,-2.417 0.775,-2.423 0.792,-2.43 0.809,-2.438 0.825,-2.447 0.841,-2.456 0.856,-2.467 0.87,-2.478 0.884,-2.49 0.897,-2.503 0.91,-2.516 0.922,-2.53 0.933,-2.544 0.944,-2.559 0.953,-2.575 0.962,-2.591 0.97,-2.608 0.977,-2.625 0.983,-2.642 0.988,-2.659 0.992,-2.677 0.996,-2.695 0.998,-2.713 1,-2.732 1,-2.75 1,-2.85 1,-2.868 0.998,-2.887 0.996,-2.905 0.992,-2.923 0.988,-2.941 0.983,-2.958 0.977,-2.975 0.97,-2.992 0.962,-3.009 0.953,-3.025 0.944,-3.041 0.933,-3.056 0.922,-3.07 0.91,-3.084 0.897,-3.097 0.884,-3.11 0.87,-3.122 0.856,-3.133 0.841,-3.144 0.825,-3.153 0.809,-3.162 0.792,-3.17 0.775,-3.177 0.758,-3.183 0.741,-3.188 0.723,-3.192 0.705,-3.196 0.687,-3.198 0.668,-3.2 -0.668,-3.2 -0.687,-3.198 -0.705,-3.196 -0.723,-3.192 -0.741,-3.188 -0.758,-3.183 -0.775,-3.177 -0.792,-3.17 -0.809,-3.162 -0.825,-3.153 -0.841,-3.144 -0.856,-3.133 -0.87,-3.122 -0.884,-3.11 -0.897,-3.097 -0.91,-3.084 -0.922,-3.07 -0.933,-3.056 -0.944,-3.041 -0.953,-3.025 -0.962,-3.009 -0.97,-2.992 -0.977,-2.975 -0.983,-2.958 -0.988,-2.941 -0.992,-2.923 -0.996,-2.905 -0.998,-2.887 -1,-2.868 -1,-2.85 -1,-2.75 -1,-2.732 -0.998,-2.713 -0.996,-2.695 -0.992,-2.677 -0.988,-2.659 -0.983,-2.642 -0.977,-2.625 -0.97,-2.608 -0.962,-2.591 -0.953,-2.575 -0.944,-2.559 -0.933,-2.544 -0.922,-2.53 -0.91,-2.516 -0.897,-2.503 -0.884,-2.49 -0.87,-2.478 -0.856,-2.467 -0.841,-2.456 -0.825,-2.447 -0.809,-2.438 -0.792,-2.43 -0.775,-2.423 -0.758,-2.417 -0.741,-2.412 -0.723,-2.408 -0.705,-2.404 -0.687,-2.402 -0.668,-2.4 0.668,-2.4
  region: -1.233,3.198 -1.215,3.196 -1.197,3.192 -1.179,3.188 -1.162,3.183 -1.145,3.177 -1.128,3.17 -1.111,3.162 -1.095,3.153 -1.079,3.144 -1.064,3.133 -1.05,3.122 -1.036,3.11 -1.023,3.097 -1.01,3.084 -0.998,3.07 -0.987,3.056 -0.976,3.041 -0.967,3.025 -0.958,3.009 -0.95,2.992 -0.943,2.975 -0.937,2.958 -0.932,2.941 -0.928,2.923 -0.924,2.905 -0.922,2.887 -0.92,2.868 -0.92,2.85 -0.92,2.75 -0.92,2.732 -0.922,2.713 -0.924,2.695 -0.928,2.677 -0.932,2.659 -0.937,2.642 -0.943,2.625 -0.95,2.608 -0.958,2.591 -0.967,2.575 -0.976,2.559 -0.987,2.544 -0.998,2.53 -1.01,2.516 -1.023,2.503 -1.036,2.49 -1.05,2.478 -1.064,2.467 -1.079,2.456 -1.095,2.447 -1.111,2.438 -1.128,2.43 -1.145,2.423 -1.162,2.417 -1.179,2.412 -1.197,2.408 -1.215,2.404 -1.233,2.402 -1.252,2.4 -2.248,2.4 -2.267,2.402 -2.285,2.404 -2.303,2.408 -2.321,2.412 -2.338,2.417 -2.355,2.423 -2.372,2.43 -2.389,2.438 -2.405,2.447 -2.421,2.456 -2.436,2.467 -2.45,2.478 -2.464,2.49 -2.477,2.503 -2.49,2.516 -2.502,2.53 -2.513,2.544 -2.524,2.559 -2.533,2.575 -2.542,2.591 -2.55,2.608 -2.557,2.625 -2.563,2.642 -2.568,2.659 -2.572,2.677 -2.576,2.695 -2.578,2.713 -2.58,2.732 -2.58,2.75 -2.58,2.85 -2.58,2.868 -2.578,2.887 -2.576,2.905 -2.572,2.923 -2.568,2.941 -2.563,2.958 -2.557,2.975 -2.55,2.992 -2.542,3.009 -2.533,3.025 -2.524,3.041 -2.513,3.056 -2.502,3.07 -2.49,3.084 -2.477,3.097 -2.464,3.11 -2.45,3.122 -2.436,3.133 -2.421,3.144 -2.405,3.153 -2.389,3.162 -2.372,3.17 -2.355,3.177 -2.338,3.183 -2.321,3.188 -2.303,3.192 -2.285,3.196 -2.267,3.198 -2.248,3.2 -1.252,3.2
  region: 4.297,0.448 4.315,0.446 4.333,0.442 4.351,0.438 4.368,0.433 4.385,0.427 4.402,0.42 4.419,0.412 4.435,0.403 4.451,0.394 4.466,0.383 4.48,0.372 4.494,0.36 4.507,0.347 4.52,0.334 4.532,0.32 4.543,0.306 4.554,0.291 4.563,0.275 4.572,0.259 4.58,0.242 4.587,0.225 4.593,0.208 4.598,0.191 4.602,0.173 4.606,0.155 4.608,0.137 4.61,0.118 4.61,0.1 4.61,-0.1 4.61,-0.118 4.608,-0.137 4.606,-0.155 4.602,-0.173 4.598,-0.191 4.593,-0.208 4.587,-0.225 4.58,-0.242 4.572,-0.259 4.563,-0.275 4.554,-0.291 4.543,-0.306 4.532,-0.32 4.52,-0.334 4.507,-0.347 4.494,-0.36 4.48,-0.372 4.466,-0.383 4.451,-0.394 4.435,-0.403 4.419,-0.412 4.402,-0.42 4.385,-0.427 4.368,-0.433 4.351,-0.438 4.333,-0.442 4.315,-0.446 4.297,-0.448 4.278,-0.45 3.742,-0.45 3.723,-0.448 3.705,-0.446 3.687,-0.442 3.669,-0.438 3.652,-0.433 3.635,-0.427 3.618,-0.42 3.601,-0.412 3.585,-0.403 3.569,-0.394 3.554,-0.383 3.54,-0.372 3.526,-0.36 3.513,-0.347 3.5,-0.334 3.488,-0.32 3.477,-0.306 3.466,-0.291 3.457,-0.275 3.448,-0.259 3.44,-0.242 3.433,-0.225 3.427,-0.208 3.422,-0.191 3.418,-0.173 3.414,-0.155 3.412,-0.137 3.41,-0.118 3.41,-0.1 3.41,0.1 3.41,0.118 3.412,0.137 3.414,0.155 3.418,0.173 3.422,0.191 3.427,0.208 3.433,0.225 3.44,0.242 3.448,0.259 3.457,0.275 3.466,0.291 3.477,0.306 3.488,0.32 3.5,0.334 3.513,0.347 3.526,0.36 3.54,0.372 3.554,0.383 3.569,0.394 3.585,0.403 3.601,0.412 3.618,0.42 3.635,0.427 3.652,0.433 3.669,0.438 3.687,0.442 3.705,0.446 3.723,0.448 3.742,0.45 4.278,0.45
  region: -3.723,0.448 -3.705,0.446 -3.687,0.442 -3.669,0.438 -3.652,0.433 -3.635,0.427 -3.618,0.42 -3.601,0.412 -3.585,0.403 -3.569,0.394 -3.554,0.383 -3.54,0.372 -3.526,0.36 -3.513,0.347 -3.5,0.334 -3.488,0.32 -3.477,0.306 -3.466,0.291 -3.457,0.275 -3.448,0.259 -3.44,0.242 -3.433,0.225 -3.427,0.208 -3.422,0.191 -3.418,0.173 -3.414,0.155 -3.412,0.137 -3.41,0.118 -3.41,0.1 -3.41,-0.1 -3.41,-0.118 -3.412,-0.137 -3.414,-0.155 -3.418,-0.173 -3.422,-0.191 -3.427,-0.208 -3.433,-0.225 -3.44,-0.242 -3.448,-0.259 -3.457,-0.275 -3.466,-0.291 -3.477,-0.306 -3.488,-0.32 -3.5,-0.334 -3.513,-0.347 -3.526,-0.36 -3.54,-0.372 -3.554,-0.383 -3.569,-0.394 -3.585,-0.403 -3.601,-0.412 -3.618,-0.42 -3.635,-0.427 -3.652,-0.433 -3.669,-0.438 -3.687,-0.442 -3.705,-0.446 -3.723,-0.448 -3.742,-0.45 -4.278,-0.45 -4.297,-0.448 -4.315,-0.446 -4.333,-0.442 -4.351,-0.438 -4.368,-0.433 -4.385,-0.427 -4.402,-0.42 -4.419,-0.412 -4.435,-0.403 -4.451,-0.394 -4.466,-0.383 -4.48,-0.372 -4.494,-0.36 -4.507,-0.347 -4.52,-0.334 -4.532,-0.32 -4.543,-0.306 -4.554,-0.291 -4.563,-0.275 -4.572,-0.259 -4.58,-0.242 -4.587,-0.225 -4.593,-0.208 -4.598,-0.191 -4.602,-0.173 -4.606,-0.155 -4.608,-0.137 -4.61,-0.118 -4.61,-0.1 -4.61,0.1 -4.61,0.118 -4.608,0.137 -4.606,0.155 -4.602,0.173 -4.598,0.191 -4.593,0.208 -4.587,0.225 -4.58,0.242 -4.572,0.259 -4.563,0.275 -4.554,0.291 -4.543,0.306 -4.532,0.32 -4.52,0.334 -4.507,0.347 -4.494,0.36 -4.48,0.372 -4.466,0.383 -4.451,0.394 -4.435,0.403 -4.419,0.412 -4.402,0.42 -4.385,0.427 -4.368,0.433 -4.351,0.438 -4.333,0.442 -4.315,0.446 -4.297,0.448 -4.278,0.45 -3.742,0.45
Bottom Layer:
  region: 2.267,3.198 2.285,3.196 2.303,3.192 2.321,3.188 2.338,3.183 2.355,3.177 2.372,3.17 2.389,3.162 2.405,3.153 2.421,3.144 2.436,3.133 2.45,3.122 2.464,3.11 2.477,3.097 2.49,3.084 2.502,3.07 2.513,3.056 2.524,3.041 2.533,3.025 2.542,3.009 2.55,2.992 2.557,2.975 2.563,2.958 2.568,2.941 2.572,2.923 2.576,2.905 2.578,2.887 2.58,2.868 2.58,2.85 2.58,2.75 2.58,2.732 2.578,2.713 2.576,2.695 2.572,2.677 2.568,2.659 2.563,2.642 2.557,2.625 2.55,2.608 2.542,2.591 2.533,2.575 2.524,2.559 2.513,2.544 2.502,2.53 2.49,2.516 2.477,2.503 2.464,2.49 2.45,2.478 2.436,2.467 2.421,2.456 2.405,2.447 2.389,2.438 2.372,2.43 2.355,2.423 2.338,2.417 2.321,2.412 2.303,2.408 2.285,2.404 2.267,2.402 2.248,2.4 1.252,2.4 1.233,2.402 1.215,2.404 1.197,2.408 1.179,2.412 1.162,2.417 1.145,2.423 1.128,2.43 1.111,2.438 1.095,2.447 1.079,2.456 1.064,2.467 1.05,2.478 1.036,2.49 1.023,2.503 1.01,2.516 0.998,2.53 0.987,2.544 0.976,2.559 0.967,2.575 0.958,2.591 0.95,2.608 0.943,2.625 0.937,2.642 0.932,2.659 0.928,2.677 0.924,2.695 0.922,2.713 0.92,2.732 0.92,2.75 0.92,2.85 0.92,2.868 0.922,2.887 0.924,2.905 0.928,2.923 0.932,2.941 0.937,2.958 0.943,2.975 0.95,2.992 0.958,3.009 0.967,3.025 0.976,3.041 0.987,3.056 0.998,3.07 1.01,3.084 1.023,3.097 1.036,3.11 1.05,3.122 1.064,3.133 1.079,3.144 1.095,3.153 1.111,3.162 1.128,3.17 1.145,3.177 1.162,3.183 1.179,3.188 1.197,3.192 1.215,3.196 1.233,3.198 1.252,3.2 2.248,3.2
  region: 0.687,-2.402 0.705,-2.404 0.723,-2.408 0.741,-2.412 0.758,-2.417 0.775,-2.423 0.792,-2.43 0.809,-2.438 0.825,-2.447 0.841,-2.456 0.856,-2.467 0.87,-2.478 0.884,-2.49 0.897,-2.503 0.91,-2.516 0.922,-2.53 0.933,-2.544 0.944,-2.559 0.953,-2.575 0.962,-2.591 0.97,-2.608 0.977,-2.625 0.983,-2.642 0.988,-2.659 0.992,-2.677 0.996,-2.695 0.998,-2.713 1,-2.732 1,-2.75 1,-2.85 1,-2.868 0.998,-2.887 0.996,-2.905 0.992,-2.923 0.988,-2.941 0.983,-2.958 0.977,-2.975 0.97,-2.992 0.962,-3.009 0.953,-3.025 0.944,-3.041 0.933,-3.056 0.922,-3.07 0.91,-3.084 0.897,-3.097 0.884,-3.11 0.87,-3.122 0.856,-3.133 0.841,-3.144 0.825,-3.153 0.809,-3.162 0.792,-3.17 0.775,-3.177 0.758,-3.183 0.741,-3.188 0.723,-3.192 0.705,-3.196 0.687,-3.198 0.668,-3.2 -0.668,-3.2 -0.687,-3.198 -0.705,-3.196 -0.723,-3.192 -0.741,-3.188 -0.758,-3.183 -0.775,-3.177 -0.792,-3.17 -0.809,-3.162 -0.825,-3.153 -0.841,-3.144 -0.856,-3.133 -0.87,-3.122 -0.884,-3.11 -0.897,-3.097 -0.91,-3.084 -0.922,-3.07 -0.933,-3.056 -0.944,-3.041 -0.953,-3.025 -0.962,-3.009 -0.97,-2.992 -0.977,-2.975 -0.983,-2.958 -0.988,-2.941 -0.992,-2.923 -0.996,-2.905 -0.998,-2.887 -1,-2.868 -1,-2.85 -1,-2.75 -1,-2.732 -0.998,-2.713 -0.996,-2.695 -0.992,-2.677 -0.988,-2.659 -0.983,-2.642 -0.977,-2.625 -0.97,-2.608 -0.962,-2.591 -0.953,-2.575 -0.944,-2.559 -0.933,-2.544 -0.922,-2.53 -0.91,-2.516 -0.897,-2.503 -0.884,-2.49 -0.87,-2.478 -0.856,-2.467 -0.841,-2.456 -0.825,-2.447 -0.809,-2.438 -0.792,-2.43 -0.775,-2.423 -0.758,-2.417 -0.741,-2.412 -0.723,-2.408 -0.705,-2.404 -0.687,-2.402 -0.668,-2.4 0.668,-2.4
  region: -1.233,3.198 -1.215,3.196 -1.197,3.192 -1.179,3.188 -1.162,3.183 -1.145,3.177 -1.128,3.17 -1.111,3.162 -1.095,3.153 -1.079,3.144 -1.064,3.133 -1.05,3.122 -1.036,3.11 -1.023,3.097 -1.01,3.084 -0.998,3.07 -0.987,3.056 -0.976,3.041 -0.967,3.025 -0.958,3.009 -0.95,2.992 -0.943,2.975 -0.937,2.958 -0.932,2.941 -0.928,2.923 -0.924,2.905 -0.922,2.887 -0.92,2.868 -0.92,2.85 -0.92,2.75 -0.92,2.732 -0.922,2.713 -0.924,2.695 -0.928,2.677 -0.932,2.659 -0.937,2.642 -0.943,2.625 -0.95,2.608 -0.958,2.591 -0.967,2.575 -0.976,2.559 -0.987,2.544 -0.998,2.53 -1.01,2.516 -1.023,2.503 -1.036,2.49 -1.05,2.478 -1.064,2.467 -1.079,2.456 -1.095,2.447 -1.111,2.438 -1.128,2.43 -1.145,2.423 -1.162,2.417 -1.179,2.412 -1.197,2.408 -1.215,2.404 -1.233,2.402 -1.252,2.4 -2.248,2.4 -2.267,2.402 -2.285,2.404 -2.303,2.408 -2.321,2.412 -2.338,2.417 -2.355,2.423 -2.372,2.43 -2.389,2.438 -2.405,2.447 -2.421,2.456 -2.436,2.467 -2.45,2.478 -2.464,2.49 -2.477,2.503 -2.49,2.516 -2.502,2.53 -2.513,2.544 -2.524,2.559 -2.533,2.575 -2.542,2.591 -2.55,2.608 -2.557,2.625 -2.563,2.642 -2.568,2.659 -2.572,2.677 -2.576,2.695 -2.578,2.713 -2.58,2.732 -2.58,2.75 -2.58,2.85 -2.58,2.868 -2.578,2.887 -2.576,2.905 -2.572,2.923 -2.568,2.941 -2.563,2.958 -2.557,2.975 -2.55,2.992 -2.542,3.009 -2.533,3.025 -2.524,3.041 -2.513,3.056 -2.502,3.07 -2.49,3.084 -2.477,3.097 -2.464,3.11 -2.45,3.122 -2.436,3.133 -2.421,3.144 -2.405,3.153 -2.389,3.162 -2.372,3.17 -2.355,3.177 -2.338,3.183 -2.321,3.188 -2.303,3.192 -2.285,3.196 -2.267,3.198 -2.248,3.2 -1.252,3.2
  region: 4.297,0.448 4.315,0.446 4.333,0.442 4.351,0.438 4.368,0.433 4.385,0.427 4.402,0.42 4.419,0.412 4.435,0.403 4.451,0.394 4.466,0.383 4.48,0.372 4.494,0.36 4.507,0.347 4.52,0.334 4.532,0.32 4.543,0.306 4.554,0.291 4.563,0.275 4.572,0.259 4.58,0.242 4.587,0.225 4.593,0.208 4.598,0.191 4.602,0.173 4.606,0.155 4.608,0.137 4.61,0.118 4.61,0.1 4.61,-0.1 4.61,-0.118 4.608,-0.137 4.606,-0.155 4.602,-0.173 4.598,-0.191 4.593,-0.208 4.587,-0.225 4.58,-0.242 4.572,-0.259 4.563,-0.275 4.554,-0.291 4.543,-0.306 4.532,-0.32 4.52,-0.334 4.507,-0.347 4.494,-0.36 4.48,-0.372 4.466,-0.383 4.451,-0.394 4.435,-0.403 4.419,-0.412 4.402,-0.42 4.385,-0.427 4.368,-0.433 4.351,-0.438 4.333,-0.442 4.315,-0.446 4.297,-0.448 4.278,-0.45 3.742,-0.45 3.723,-0.448 3.705,-0.446 3.687,-0.442 3.669,-0.438 3.652,-0.433 3.635,-0.427 3.618,-0.42 3.601,-0.412 3.585,-0.403 3.569,-0.394 3.554,-0.383 3.54,-0.372 3.526,-0.36 3.513,-0.347 3.5,-0.334 3.488,-0.32 3.477,-0.306 3.466,-0.291 3.457,-0.275 3.448,-0.259 3.44,-0.242 3.433,-0.225 3.427,-0.208 3.422,-0.191 3.418,-0.173 3.414,-0.155 3.412,-0.137 3.41,-0.118 3.41,-0.1 3.41,0.1 3.41,0.118 3.412,0.137 3.414,0.155 3.418,0.173 3.422,0.191 3.427,0.208 3.433,0.225 3.44,0.242 3.448,0.259 3.457,0.275 3.466,0.291 3.477,0.306 3.488,0.32 3.5,0.334 3.513,0.347 3.526,0.36 3.54,0.372 3.554,0.383 3.569,0.394 3.585,0.403 3.601,0.412 3.618,0.42 3.635,0.427 3.652,0.433 3.669,0.438 3.687,0.442 3.705,0.446 3.723,0.448 3.742,0.45 4.278,0.45
  region: -3.723,0.448 -3.705,0.446 -3.687,0.442 -3.669,0.438 -3.652,0.433 -3.635,0.427 -3.618,0.42 -3.601,0.412 -3.585,0.403 -3.569,0.394 -3.554,0.383 -3.54,0.372 -3.526,0.36 -3.513,0.347 -3.5,0.334 -3.488,0.32 -3.477,0.306 -3.466,0.291 -3.457,0.275 -3.448,0.259 -3.44,0.242 -3.433,0.225 -3.427,0.208 -3.422,0.191 -3.418,0.173 -3.414,0.155 -3.412,0.137 -3.41,0.118 -3.41,0.1 -3.41,-0.1 -3.41,-0.118 -3.412,-0.137 -3.414,-0.155 -3.418,-0.173 -3.422,-0.191 -3.427,-0.208 -3.433,-0.225 -3.44,-0.242 -3.448,-0.259 -3.457,-0.275 -3.466,-0.291 -3.477,-0.306 -3.488,-0.32 -3.5,-0.334 -3.513,-0.347 -3.526,-0.36 -3.54,-0.372 -3.554,-0.383 -3.569,-0.394 -3.585,-0.403 -3.601,-0.412 -3.618,-0.42 -3.635,-0.427 -3.652,-0.433 -3.669,-0.438 -3.687,-0.442 -3.705,-0.446 -3.723,-0.448 -3.742,-0.45 -4.278,-0.45 -4.297,-0.448 -4.315,-0.446 -4.333,-0.442 -4.351,-0.438 -4.368,-0.433 -4.385,-0.427 -4.402,-0.42 -4.419,-0.412 -4.435,-0.403 -4.451,-0.394 -4.466,-0.383 -4.48,-0.372 -4.494,-0.36 -4.507,-0.347 -4.52,-0.334 -4.532,-0.32 -4.543,-0.306 -4.554,-0.291 -4.563,-0.275 -4.572,-0.259 -4.58,-0.242 -4.587,-0.225 -4.593,-0.208 -4.598,-0.191 -4.602,-0.173 -4.606,-0.155 -4.608,-0.137 -4.61,-0.118 -4.61,-0.1 -4.61,0.1 -4.61,0.118 -4.608,0.137 -4.606,0.155 -4.602,0.173 -4.598,0.191 -4.593,0.208 -4.587,0.225 -4.58,0.242 -4.572,0.259 -4.563,0.275 -4.554,0.291 -4.543,0.306 -4.532,0.32 -4.52,0.334 -4.507,0.347 -4.494,0.36 -4.48,0.372 -4.466,0.383 -4.451,0.394 -4.435,0.403 -4.419,0.412 -4.402,0.42 -4.385,0.427 -4.368,0.433 -4.351,0.438 -4.333,0.442 -4.315,0.446 -4.297,0.448 -4.278,0.45 -3.742,0.45
Top Overlay:
  lines w0.127: -4.33,0.77 -4.33,1.4 -3.21,1.4 ; 3.21,-1.4 4.33,-1.4 4.33,-0.77
  text ">" at 2.6,4.2 h0.8
  text ".Silk" at -2.167,4.073 h3
Top Solder:
  drawing of 5 lines, arcs and shapes, not listed
Bottom Solder:
  drawing of 5 lines, arcs and shapes, not listed
Mechanical 1:
  lines w0: -4.41,-0.1 ccw(c-4.26,-0.1) -4.26,-0.25 -3.76,-0.25 ccw(c-3.76,-0.1) -3.61,-0.1 -3.61,0.1 ccw(c-3.76,0.1) -3.76,0.25 -4.26,0.25 ccw(c-4.26,0.1) -4.41,0.1 -4.41,-0.1 ; -2.35,2.75 ccw(c-2.2,2.75) -2.2,2.6 -1.3,2.6 ccw(c-1.3,2.75) -1.15,2.75 -1.15,2.85 ccw(c-1.3,2.85) -1.3,3 -2.2,3 ccw(c-2.2,2.85) -2.35,2.85 -2.35,2.75 ; -0.8,-2.85 ccw(c-0.65,-2.85) -0.65,-3 0.65,-3 ccw(c0.65,-2.85) 0.8,-2.85 0.8,-2.75 ccw(c0.65,-2.75) 0.65,-2.6 -0.65,-2.6 ccw(c-0.65,-2.75) -0.8,-2.75 -0.8,-2.85 ; 1.15,2.75 ccw(c1.3,2.75) 1.3,2.6 2.2,2.6 ccw(c2.2,2.75) 2.35,2.75 2.35,2.85 ccw(c2.2,2.85) 2.2,3 1.3,3 ccw(c1.3,2.85) 1.15,2.85 1.15,2.75 ; 3.61,-0.1 ccw(c3.76,-0.1) 3.76,-0.25 4.26,-0.25 ccw(c4.26,-0.1) 4.41,-0.1 4.41,0.1 ccw(c4.26,0.1) 4.26,0.25 3.76,0.25 ccw(c3.76,0.1) 3.61,0.1 3.61,-0.1
Mechanical 13:
  lines w0.127: -4.33,-1.4 -4.33,1.4 4.33,1.4 4.33,-1.4 -4.33,-1.4
Mechanical 15:
  lines w0.05: -5,-3.45 -5,3.45 5,3.45 5,-3.45 -5,-3.45
  lines w0.1: -0.5,-0.5 0.5,0.5 ; -0.5,0.5 0.5,-0.5
3D body "Same_Sky_UP32-C-V-G-TH-3-P24-TR.step": height 11.15, standoff -1.2, extent -4.33,-2.875 4.33,2.875

## SMA - 50 Ohm [mm]
pads (5):
  oct 3x3 hole 1: 1(0,3.81)
  rrect50% 3x3 hole 2: 2(-4.318,6.858) 5(4.318,6.858)
  round 3 hole 1.5: 3(-4.318,3.81) 4(4.318,3.81)
Top Overlay:
  circle w0.254: c0,3.81 r2.7
  lines w0.254: -4.826,0 4.826,0 4.826,7.874 -4.826,7.874 -4.826,0
3D body "User Library-Johnson Components SMA - 50 Ohm Connectors 142-0701-801.step": height 11.6, standoff -2.67, extent -4.76,0 4.76,7.92

## SS-19-3.8-G S/C W/HOLE .400 OAL [mm]
pads (1):
  oval 2x3 hole 1.5: 1(0,0)
Top Overlay:
  text "'.Comment'" at 1.27,-0.481 h1.5
3D body: height 5.24, standoff -2, extent -0.682,-0.683 0.682,0.684
3D body: height 8.16, standoff -2, extent -0.568,-0.569 0.568,0.569
3D body: height 6.76, standoff -2, extent -0.568,-0.569 0.568,0.569